# Altium schematic symbol library RF_Module.Schlib: 5 symbols
Pins are listed as number, name and electrical type; pins without a type are passive.

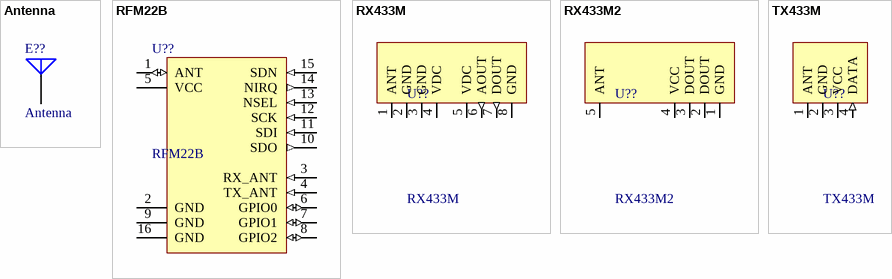
[diagram p0: symbols Antenna to TX433M]

## Antenna
designator E??
Generic Antenna; Published: 24-Mar-1999; LatestRevisionDate: 17-Jul-2002; LatestRevisionNote: Re-released for DXP Platform.; PackageReference: PIN1; Publisher: Altium Limited
footprint PIN1 (Generic Antenna; 1 Lead)
pins: 1 A

## RFM22B
designator U??
RFM22B/23B ISM TRANSCEIVER MODULE
footprint RFM22B (DIP; 8 Leads; Row Spacing 7.62 mm; Pitch 2.54 mm)
pins: 1 ANT (io), 2 GND (power), 3 RX_ANT (in), 4 TX_ANT (in), 5 VCC (power), 6 GPIO0 (io), 7 GPIO1 (io), 8 GPIO2 (io), 9 GND (power), 10 SDO (out), 11 SDI (in), 12 SCK (in), 13 NSEL (in), 14 NIRQ (out), 15 SDN (in), 16 GND (power)

## RX433M
designator U??
Módulo híbrido receptor de dados
footprint RX_Module (DIP; 8 Leads; Row Spacing 7.62 mm; Pitch 2.54 mm)
footprint RX_Module - H (DIP; 8 Leads; Row Spacing 7.62 mm; Pitch 2.54 mm)
pins: 1 ANT, 2 GND (power), 3 GND (power), 4 VDC (power), 5 VDC (power), 6 AOUT (out), 7 DOUT (out), 8 GND (power)

## RX433M2
designator U??
Módulo híbrido receptor de dados
footprint RX_Module - H2 (DIP; 8 Leads; Row Spacing 7.62 mm; Pitch 2.54 mm)
pins: 1 GND (power), 2 DOUT, 3 DOUT, 4 VCC (power), 5 ANT

## TX433M
designator U??
Módulo Híbrido Transmissor 433Mhz
footprint TX_Module (DIP; 8 Leads; Row Spacing 7.62 mm; Pitch 2.54 mm)
footprint TX_Module2 (DIP; 8 Leads; Row Spacing 7.62 mm; Pitch 2.54 mm)
pins: 1 ANT, 2 GND (power), 3 VCC (power), 4 DATA (in)